# Altium schematic symbol library CustomParts.SchLib: 89 symbols
Pins are listed as number, name and electrical type; pins without a type are passive.

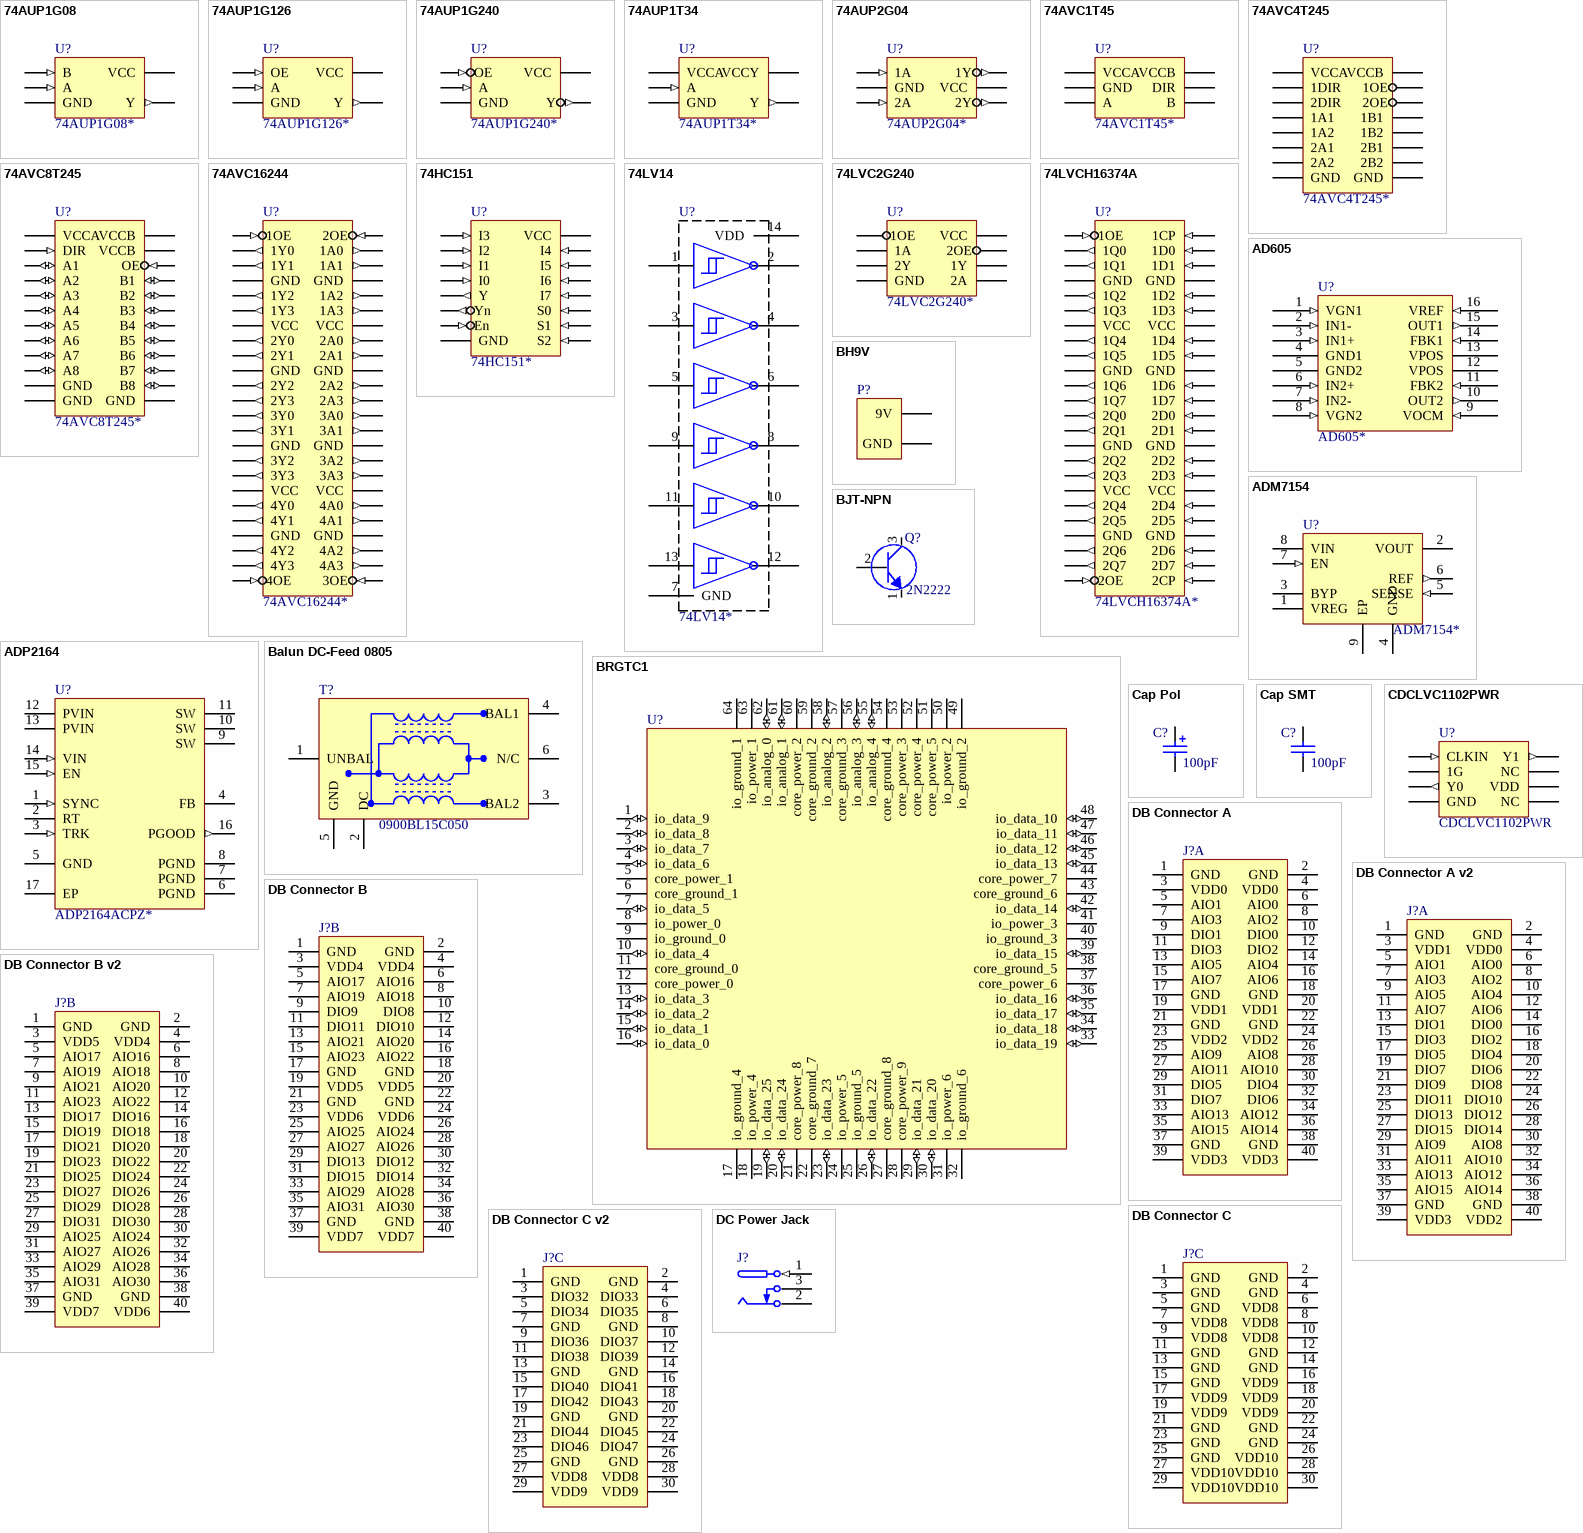
[diagram p0: symbols 74AUP1G08 to DC Power Jack]

## 74AUP1G08
designator U?, comment 74AUP1G08*
NXP Semiconductor Low-power 2-input AND gate
footprint 74AUP1G08GW (SOT23, 5-Leads, Body 2.05x2.13mm, Pitch 0.65mm, IPC Medium Density)
pins: 1 B (in), 2 A (in), 3 GND (power), 4 Y (out), 5 VCC (power)

## 74AUP1G126
designator U?, comment 74AUP1G126*
NXP Semiconductor 1-bit Buffer
footprint 74AUP1G126GW (Altium Generated SOT-23-5)
pins: 1 OE (in), 2 A (in), 3 GND (power), 4 Y (out), 5 VCC (power)

## 74AUP1G240
designator U?, comment 74AUP1G240*
NXP Semiconductor 1-bit Buffer
footprint 74AUP1G240GW (Altium Generated SOT-23-5)
pins: 1 OE (in), 2 A (in), 3 GND (power), 4 Y (out), 5 VCC (power)

## 74AUP1T34
designator U?, comment 74AUP1T34*
NXP Semiconductor low-power dual supply translating buffer
footprint 74AUP1T34GW (SOT23, 5-Leads, Body 2.05x2.13mm, Pitch 0.65mm, IPC Medium Density)
pins: 1 VCCA (power), 2 A (in), 3 GND (power), 4 Y (out), 5 VCCY (power)

## 74AUP2G04
designator U?, comment 74AUP2G04*
NXP Semiconductor low-power dual inverter
footprint 74AUP2G04GW (SOT23, 6-Leads, Body 2.00x2.10mm, Pitch 0.65mm, IPC Medium Density)
pins: 1 1A (in), 2 GND (power), 3 2A (in), 4 2Y (out), 5 VCC (power), 6 1Y (out)

## 74AVC1T45
designator U?, comment 74AVC1T45*
NXP Semiconductor 1-bit bidirectional level shifter
footprint 74AVC1T45GW (Altium Generated 6-lead SOT23 (2.00x2.10mm Body))
pins: 1 VCCA (power), 2 GND (power), 3 A (power), 4 B (power), 5 DIR (power), 6 VCCB

## 74AVC4T245
designator U?, comment 74AVC4T245*
NXP Semiconductor 4-bit bidirectional level shifter
footprint 74AVC4T245PW (ALtium Generated 16-TSSOP (4.40mm Width))
pins: 1 VCCA (power), 2 1DIR (power), 3 2DIR (power), 4 1A1 (power), 5 1A2 (power), 6 2A1 (power), 7 2A2 (power), 8 GND (power), 9 GND (power), 10 2B2 (power), 11 2B1 (power), 12 1B2 (power), 13 1B1 (power), 14 2OE (power), 15 1OE (power), 16 VCCB

## 74AVC8T245
designator U?, comment 74AVC8T245*
NXP Semiconductor 8-bit bidirectional level shifter
footprint 74AVC8T245PW (ALtium Generated 24-TSSOP (4.40mm Width))
pins: 1 VCCA (power), 2 DIR (in), 3 A1 (io), 4 A2 (io), 5 A3 (io), 6 A4 (io), 7 A5 (io), 8 A6 (io), 9 A7 (io), 10 A8 (io), 11 GND (power), 12 GND (power), 13 GND (power), 14 B8 (io), 15 B7 (io), 16 B6 (io), 17 B5 (io), 18 B4 (io), 19 B3 (io), 20 B2 (io), 21 B1 (io), 22 OE (in), 23 VCCB (power), 24 VCCB

## 74AVC16244
designator U?, comment 74AVC16244*
NXP Semiconductor 16-bit line driver
footprint 74AVC16244DGG (ALtium Generated 48-TSSOP (6.1mm Width))
pins: 1 1OE (in), 2 1Y0 (out), 3 1Y1 (out), 4 GND (power), 5 1Y2 (out), 6 1Y3 (out), 7 VCC (power), 8 2Y0 (out), 9 2Y1 (out), 10 GND (power), 11 2Y2 (out), 12 2Y3 (out), 13 3Y0 (out), 14 3Y1 (out), 15 GND (power), 16 3Y2 (out), 17 3Y3 (out), 18 VCC (power), 19 4Y0 (out), 20 4Y1 (out), 21 GND (power), 22 4Y2 (out), 23 4Y3 (out), 24 4OE (in), 25 3OE (in), 26 4A3 (out), 27 4A2 (out), 28 GND (power), 29 4A1 (out), 30 4A0 (out), 31 VCC (power), 32 3A3 (out), 33 3A2 (out), 34 GND (power), 35 3A1 (out), 36 3A0 (out), 37 2A3 (out), 38 2A2 (out), 39 GND (power), 40 2A1 (out), 41 2A0 (out), 42 VCC (power), 43 1A3 (out), 44 1A2 (out), 45 GND (power), 46 1A1 (out), 47 1A0 (out), 48 2OE (in)

## 74HC151
designator U?, comment 74HC151*
NXP Semiconductor 8-input multiplexer
footprint 74HC151PW (TSOP, 16-Leads, Body 5.00x4.40mm, Pitch 0.65mm, IPC Medium Density)
pins: 1 I3 (in), 2 I2 (in), 3 I1 (in), 4 I0 (in), 5 Y (out), 6 Yn (out), 7 En (in), 8 GND (power), 9 S2 (in), 10 S1 (in), 11 S0 (in), 12 I7 (in), 13 I6 (in), 14 I5 (in), 15 I4 (in), 16 VCC

## 74LV14
designator U?, comment 74LV14*
NXP Semiconductors Hex Schmitt Trigger
footprint 74LV14PW (ALtium Generated 14-TSSOP (4.40mm Width))
pins: 1 A1, 2 Y1n, 3 A2, 4 Y2n, 5 A3, 6 Y3n, 7 GND (power), 8 Y4n, 9 A4, 10 Y5n, 11 A5, 12 Y6n, 13 A6, 14 VDD (power)

## 74LVC2G240
designator U?, comment 74LVC2G240*
NXP Semiconductor 2-bit inverting buffer
footprint 74LVC2G240DP (ALtium Generated 8-TSSOP (3.00mm Width))
pins: 1 1OE (power), 2 1A (power), 3 2Y (power), 4 GND (power), 5 2A (power), 6 1Y (power), 7 2OE (power), 8 VCC

## 74LVCH16374A
designator U?, comment 74LVCH16374A*
NXP Semiconductor 16-bit edge-triggered D-type flip-flop; 5 V tolerant; 3-state
footprint 74LVCH16374ADGG (TSSOP, 48-Leads, Body 12.50x6.10mm, Pitch 0.50mm, IPC Medium Density)
pins: 1 1OE (in), 2 1Q0 (out), 3 1Q1 (out), 4 GND (power), 5 1Q2 (out), 6 1Q3 (out), 7 VCC (power), 8 1Q4 (out), 9 1Q5 (out), 10 GND (power), 11 1Q6 (out), 12 1Q7 (out), 13 2Q0 (out), 14 2Q1 (out), 15 GND (power), 16 2Q2 (out), 17 2Q3 (out), 18 VCC (power), 19 2Q4 (out), 20 2Q5 (out), 21 GND (power), 22 2Q6 (out), 23 2Q7 (out), 24 2OE (in), 25 2CP (in), 26 2D7 (in), 27 2D6 (in), 28 GND (power), 29 2D5 (in), 30 2D4 (in), 31 VCC (power), 32 2D3 (in), 33 2D2 (in), 34 GND (power), 35 2D1 (in), 36 2D0 (in), 37 1D7 (in), 38 1D6 (in), 39 GND (power), 40 1D5 (in), 41 1D4 (in), 42 VCC (power), 43 1D3 (in), 44 1D2 (in), 45 GND (power), 46 1D1 (in), 47 1D0 (in), 48 1CP (in)

## AD605
designator U?, comment AD605*
Dual, Low-Noise, Single Supply VGA
footprint AD605 (ALtium Generated 16-SOIC (3.90mm Width))
pins: 1 VGN1 (in), 2 IN1- (in), 3 IN1+ (in), 4 GND1 (power), 5 GND2 (power), 6 IN2+ (in), 7 IN2- (in), 8 VGN2 (in), 9 VOCM (in), 10 OUT2 (out), 11 FBK2 (in), 12 VPOS (power), 13 VPOS (power), 14 FBK1 (in), 15 OUT1 (out), 16 VREF (in)

## ADM7154
designator U?, comment ADM7154*
600 mA, Ultralow Noise, High PSRR, RF Linear Regulator
footprint ADM7154ARDZ (SOIC, 8-Leads, Body 4.90x3.90mm, Pitch 1.27mm, Thermal Pad 2.29x2.29mm, IPC Medium Density)
pins: 1 VREG (power), 2 VOUT (power), 3 BYP, 4 GND (power), 5 SENSE (in), 6 REF (out), 7 EN (in), 8 VIN (power), 9 EP (power)

## ADP2164
designator U?, comment ADP2164ACPZ*
6.5 V, 4 A, High Efficiency, Step-Down, DC-to-DC Regulator
footprint ADP2164ACPZ (QFN, 16-Leads, Body 4.00x4.00mm, Pitch 0.65mm, Thermal Pad 2.50x2.50mm, IPC Medium Density)
pins: 1 SYNC (in), 2 RT, 3 TRK (in), 4 FB, 5 GND, 6 PGND, 7 PGND, 8 PGND, 9 SW, 10 SW, 11 SW, 12 PVIN, 13 PVIN, 14 VIN (in), 15 EN (in), 16 PGOOD (out), 17 EP

## Balun DC-Feed 0805
designator T?, comment 0900BL15C050
1:1 RF Balun, EIA 0805 with DC-Feed Feature / Compatible with: 0900BL15C050
footprint Balun DC-Feed 0805 (Chip Array, Flat, 6-Leads, Pitch 0.65mm,  Body 2.00x1.25mm,  IPC Medium Density)
pins: 1 UNBAL, 2 DC (power), 3 BAL2, 4 BAL1, 5 GND (power), 6 N/C

## BH9V
designator P?
9 Volt Battery Holder
footprint BH9VPC (9 volt battery holder)
pins: 1 GND, 2 9V

## BJT-NPN
designator Q?, comment 2N2222
Schematic Terminals: 1-G, 2-S, 3-D
footprint TO-92 (TO-92 Standard Footprint (50 mil pitch))
pins: 1 C, 2 B, 3 C

## BRGTC1
designator U?  (value not drawn)
see http://www.csl.cornell.edu/~ctorng/
footprint BRGTC1 (Adapted from PGA socket 200-6311-9UN-1900)
pins: 1 io_data_9 (io), 2 io_data_8 (io), 3 io_data_7 (io), 4 io_data_6 (io), 5 core_power_1 (power), 6 core_ground_1 (power), 7 io_data_5 (io), 8 io_power_0 (power), 9 io_ground_0 (power), 10 io_data_4 (io), 11 core_ground_0 (power), 12 core_power_0 (power), 13 io_data_3 (io), 14 io_data_2 (io), 15 io_data_1 (io), 16 io_data_0 (io), 17 io_ground_4 (power), 18 io_power_4 (power), 19 io_data_25 (io), 20 io_data_24 (io), 21 core_power_8 (power), 22 core_ground_7 (power), 23 io_data_23 (io), 24 io_power_5 (power), 25 io_ground_5 (power), 26 io_data_22 (io), 27 core_ground_8 (power), 28 core_power_9 (power), 29 io_data_21 (io), 30 io_data_20 (io), 31 io_power_6 (power), 32 io_ground_6 (power), 33 io_data_19 (io), 34 io_data_18 (io), 35 io_data_17 (io), 36 io_data_16 (io), 37 core_power_6 (power), 38 core_ground_5 (power), 39 io_data_15 (io), 40 io_ground_3 (power), 41 io_power_3 (power), 42 io_data_14 (io), 43 core_ground_6 (power), 44 core_power_7 (power), 45 io_data_13 (io), 46 io_data_12 (io), 47 io_data_11 (io), 48 io_data_10 (io), 49 io_ground_2 (power), 50 io_power_2 (power), 51 core_power_5 (power), 52 core_power_4 (power), 53 core_power_3 (power), 54 core_ground_4 (power), 55 io_analog_4 (io), 56 io_analog_3 (io), 57 core_ground_3 (power), 58 io_analog_2 (io), 59 core_ground_2 (power), 60 core_power_2 (power), 61 io_analog_1 (io), 62 io_analog_0 (io), 63 io_power_1 (power), 64 io_ground_1 (power)

## Cap Pol
designator C?  value 100pF  (hidden comment: Cap Pol)
Generic Polarized Capacitor, Through Hole or Surface Mount
footprint RAD4mm_P (Radial Capacitor (polarized) 4 mm)
simulation model CAP (Capacitor)
signal-integrity model Cap Pol
footprint RAD8mm_P (Radial Capacitor (polarized) 8 mm)
footprint RAD10mm_P (Radial Capacitor (polarized) 10 mm)
footprint 3216N Pol (1206 (3216 Metric))
footprint 6032N Pol (2312 (6032 Metric))
pins: 1, 2
1 alternate drawing of the same symbol

## Cap SMT
designator C?  value 100pF  (hidden comment: Cap SMT)
Generic Non-Polarized Capacitor, Surface Mount; Dielectric: X5R
simulation model CAP (Capacitor)
signal-integrity model Cap
footprint 1608N (0603 (1608 Metric) from PCBfootprints_290709)
footprint 0603L (0201 (0603 Metric). Chip Capacitor, 2-Leads, Body 0.60x0.30mm, IPC High Density)
footprint 0603N (0201 (0603 Metric). Chip Capacitor, 2-Leads, Body 0.60x0.30mm, IPC Medium Density)
footprint 1005L (0402 (1005 Metric) from PCBfootprints_290709)
footprint 1005N (0402 (1005 Metric) from PCBfootprints_290709)
footprint 2012N (0805 (2012 Metric) from PCBfootprints_290709)
footprint 3216N (1206 (3216 Metric) from PCBfootprints_290709)
pins: 1, 2
1 alternate drawing of the same symbol

## CDCLVC1102PWR
designator U?
TI 1:2 Single-Ended Clock Buffer
footprint CDCLVC1102PWR (ALtium Generated 8-TSSOP (4.40mm Width))
pins: 1 CLKIN (in), 2 1G (power), 3 Y0 (out), 4 GND (power), 5 NC (power), 6 VDD (power), 7 NC (power), 8 Y1 (out)

## DB Connector A
designator J?A
Daughterboard Connector A
footprint DB Connector A (Daughterboard Connector A)
pins: 1 GND (power), 2 GND, 3 VDD0 (power), 4 VDD0 (power), 5 AIO1 (power), 6 AIO0 (power), 7 AIO3 (power), 8 AIO2 (power), 9 DIO1 (power), 10 DIO0 (power), 11 DIO3 (power), 12 DIO2 (power), 13 AIO5 (power), 14 AIO4 (power), 15 AIO7 (power), 16 AIO6 (power), 17 GND (power), 18 GND (power), 19 VDD1 (power), 20 VDD1 (power), 21 GND (power), 22 GND (power), 23 VDD2 (power), 24 VDD2 (power), 25 AIO9 (power), 26 AIO8 (power), 27 AIO11 (power), 28 AIO10 (power), 29 DIO5 (power), 30 DIO4 (power), 31 DIO7 (power), 32 DIO6 (power), 33 AIO13 (power), 34 AIO12 (power), 35 AIO15 (power), 36 AIO14 (power), 37 GND (power), 38 GND (power), 39 VDD3 (power), 40 VDD3 (power)

## DB Connector A v2
designator J?A
Daughterboard Connector A v2
footprint DB Connector AB v2 (Daughterboard Connector AB v2)
pins: 1 GND (power), 2 GND, 3 VDD1 (power), 4 VDD0 (power), 5 AIO1 (power), 6 AIO0 (power), 7 AIO3 (power), 8 AIO2 (power), 9 AIO5 (power), 10 AIO4 (power), 11 AIO7 (power), 12 AIO6 (power), 13 DIO1 (power), 14 DIO0 (power), 15 DIO3 (power), 16 DIO2 (power), 17 DIO5 (power), 18 DIO4 (power), 19 DIO7 (power), 20 DIO6 (power), 21 DIO9 (power), 22 DIO8 (power), 23 DIO11 (power), 24 DIO10 (power), 25 DIO13 (power), 26 DIO12 (power), 27 DIO15 (power), 28 DIO14 (power), 29 AIO9 (power), 30 AIO8 (power), 31 AIO11 (power), 32 AIO10 (power), 33 AIO13 (power), 34 AIO12 (power), 35 AIO15 (power), 36 AIO14 (power), 37 GND (power), 38 GND (power), 39 VDD3 (power), 40 VDD2 (power)

## DB Connector B
designator J?B
Daughterboard Connector B
footprint DB Connector B (DE2-70 Expansion Header (1/2); 800 mill between pin 1s)
pins: 1 GND (power), 2 GND, 3 VDD4 (power), 4 VDD4 (power), 5 AIO17 (power), 6 AIO16 (power), 7 AIO19 (power), 8 AIO18 (power), 9 DIO9 (power), 10 DIO8 (power), 11 DIO11 (power), 12 DIO10 (power), 13 AIO21 (power), 14 AIO20 (power), 15 AIO23 (power), 16 AIO22 (power), 17 GND (power), 18 GND (power), 19 VDD5 (power), 20 VDD5 (power), 21 GND (power), 22 GND (power), 23 VDD6 (power), 24 VDD6 (power), 25 AIO25 (power), 26 AIO24 (power), 27 AIO27 (power), 28 AIO26 (power), 29 DIO13 (power), 30 DIO12 (power), 31 DIO15 (power), 32 DIO14 (power), 33 AIO29 (power), 34 AIO28 (power), 35 AIO31 (power), 36 AIO30 (power), 37 GND (power), 38 GND (power), 39 VDD7 (power), 40 VDD7 (power)

## DB Connector B v2
designator J?B
Daughterboard Connector B v2
footprint DB Connector AB v2 (Daughterboard Connector AB v2)
pins: 1 GND (power), 2 GND, 3 VDD5 (power), 4 VDD4 (power), 5 AIO17 (power), 6 AIO16 (power), 7 AIO19 (power), 8 AIO18 (power), 9 AIO21 (power), 10 AIO20 (power), 11 AIO23 (power), 12 AIO22 (power), 13 DIO17 (power), 14 DIO16 (power), 15 DIO19 (power), 16 DIO18 (power), 17 DIO21 (power), 18 DIO20 (power), 19 DIO23 (power), 20 DIO22 (power), 21 DIO25 (power), 22 DIO24 (power), 23 DIO27 (power), 24 DIO26 (power), 25 DIO29 (power), 26 DIO28 (power), 27 DIO31 (power), 28 DIO30 (power), 29 AIO25 (power), 30 AIO24 (power), 31 AIO27 (power), 32 AIO26 (power), 33 AIO29 (power), 34 AIO28 (power), 35 AIO31 (power), 36 AIO30 (power), 37 GND (power), 38 GND (power), 39 VDD7 (power), 40 VDD6 (power)

## DB Connector C
designator J?C
Daughterboard Connector C
footprint DB Connector C (DE2-70 Expansion Header (1/2); 800 mill between pin 1s)
pins: 1 GND (power), 2 GND, 3 GND (power), 4 GND (power), 5 GND (power), 6 VDD8 (power), 7 VDD8 (power), 8 VDD8 (power), 9 VDD8 (power), 10 VDD8 (power), 11 GND (power), 12 GND (power), 13 GND (power), 14 GND (power), 15 GND (power), 16 VDD9 (power), 17 VDD9 (power), 18 VDD9 (power), 19 VDD9 (power), 20 VDD9 (power), 21 GND (power), 22 GND (power), 23 GND (power), 24 GND (power), 25 GND (power), 26 VDD10 (power), 27 VDD10 (power), 28 VDD10 (power), 29 VDD10 (power), 30 VDD10 (power)

## DB Connector C v2
designator J?C
Daughterboard Connector C v2
footprint DB Connector C v2 (Daughterboard Connector C v2)
pins: 1 GND (power), 2 GND, 3 DIO32 (power), 4 DIO33 (power), 5 DIO34 (power), 6 DIO35 (power), 7 GND (power), 8 GND (power), 9 DIO36 (power), 10 DIO37 (power), 11 DIO38 (power), 12 DIO39 (power), 13 GND (power), 14 GND (power), 15 DIO40 (power), 16 DIO41 (power), 17 DIO42 (power), 18 DIO43 (power), 19 GND (power), 20 GND (power), 21 DIO44 (power), 22 DIO45 (power), 23 DIO46 (power), 24 DIO47 (power), 25 GND (power), 26 GND (power), 27 VDD8 (power), 28 VDD8 (power), 29 VDD9 (power), 30 VDD9 (power)

## DC Power Jack
designator J?
DC Power Jack
footprint BARREL-2.1x5.5 (Barrel Power Connector Male (2.1mm ID, 5.5mm OD))
footprint BARREL-2.1x5.5_slot (Barrel Power Connector Male 2.1mm ID, 5.5mm OD, ex: EJ508A)
pins: 1 (in), 2 (power), 3 (power)

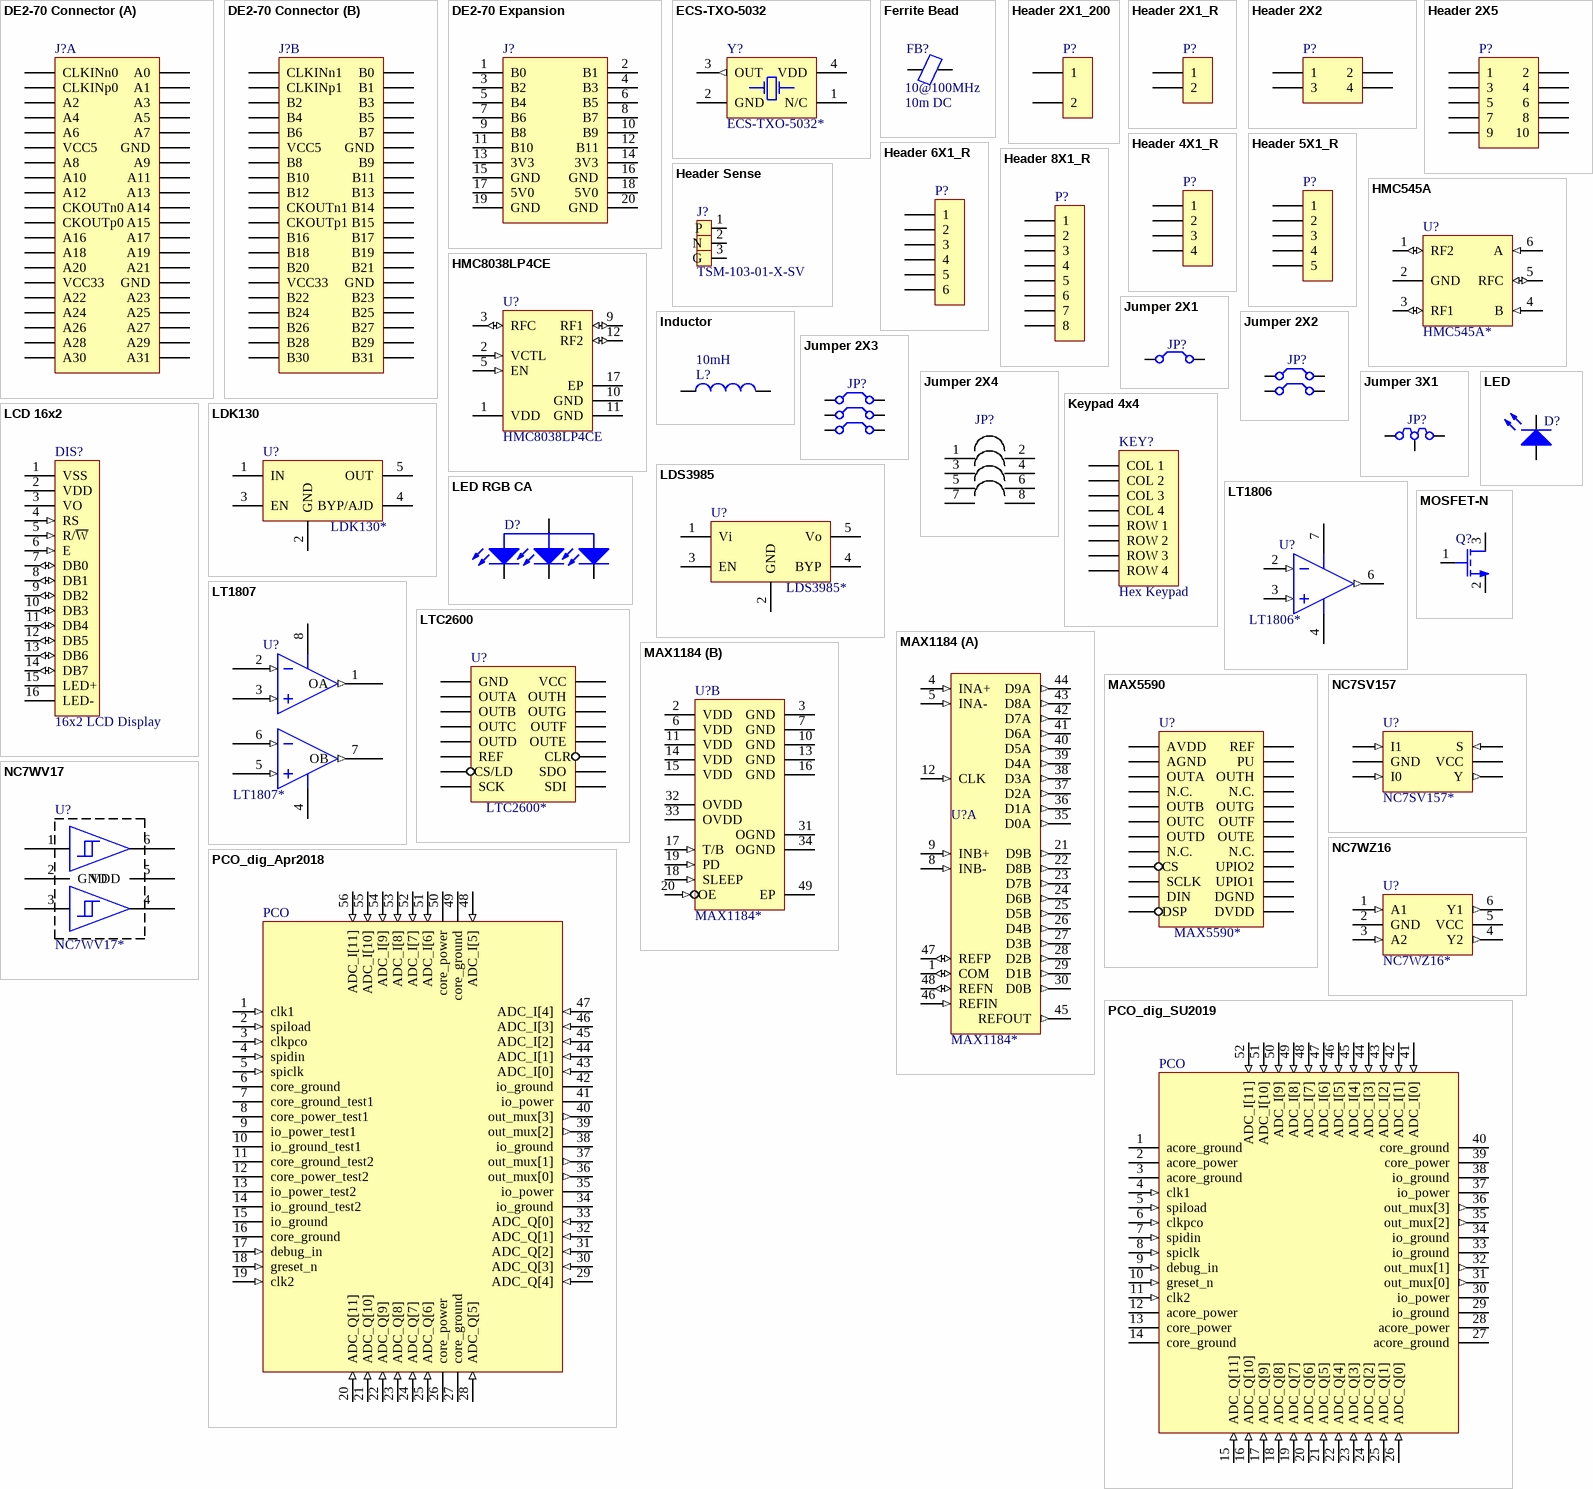
[diagram p1: symbols DE2-70 Connector to PCO_dig_SU2019]

## DE2-70 Connector
designator J?
DE2-70 Connector (GPIO0/1)
footprint DE2-70 Connector
part A pins: 1 CLKINn0 (power), 2 A0, 3 CLKINp0 (power), 4 A1 (power), 5 A2 (power), 6 A3 (power), 7 A4 (power), 8 A5 (power), 9 A6 (power), 10 A7 (power), 11 VCC5 (power), 12 GND (power), 13 A8 (power), 14 A9 (power), 15 A10 (power), 16 A11 (power), 17 A12 (power), 18 A13 (power), 19 CKOUTn0 (power), 20 A14 (power), 21 CKOUTp0 (power), 22 A15 (power), 23 A16 (power), 24 A17 (power), 25 A18 (power), 26 A19 (power), 27 A20 (power), 28 A21 (power), 29 VCC33 (power), 30 GND (power), 31 A22 (power), 32 A23 (power), 33 A24 (power), 34 A25 (power), 35 A26 (power), 36 A27 (power), 37 A28 (power), 38 A29 (power), 39 A30 (power), 40 A31 (power)
part B pins: 41 CLKINn1 (power), 42 B0, 43 CLKINp1 (power), 44 B1 (power), 45 B2 (power), 46 B3 (power), 47 B4 (power), 48 B5 (power), 49 B6 (power), 50 B7 (power), 51 VCC5 (power), 52 GND (power), 53 B8 (power), 54 B9 (power), 55 B10 (power), 56 B11 (power), 57 B12 (power), 58 B13 (power), 59 CKOUTn1 (power), 60 B14 (power), 61 CKOUTp1 (power), 62 B15 (power), 63 B16 (power), 64 B17 (power), 65 B18 (power), 66 B19 (power), 67 B20 (power), 68 B21 (power), 69 VCC33 (power), 70 GND (power), 71 B22 (power), 72 B23 (power), 73 B24 (power), 74 B25 (power), 75 B26 (power), 76 B27 (power), 77 B28 (power), 78 B29 (power), 79 B30 (power), 80 B31 (power)

## DE2-70 Expansion
designator J?
Unused FPGA Pin Expansion Header
footprint DE2-70 Expansion (DE2-70 Expansion Header)
pins: 1 B0 (power), 2 B1, 3 B2 (power), 4 B3 (power), 5 B4 (power), 6 B5 (power), 7 B6 (power), 8 B7 (power), 9 B8 (power), 10 B9 (power), 11 B10 (power), 12 B11 (power), 13 3V3 (power), 14 3V3 (power), 15 GND (power), 16 GND (power), 17 5V0 (power), 18 5V0 (power), 19 GND (power), 20 GND (power)

## ECS-TXO-5032
designator Y?, comment ECS-TXO-5032*
3.3 V HCMOS TCXO Oscillator 2.5ppm
footprint ECS-TXO-5032
pins: 1 N/C (power), 2 GND (power), 3 OUT (out), 4 VDD (power)

## Ferrite Bead
designator FB?  value 10@100MHz  RDC: 10m DC  (hidden comment: Ferrite Bead)
Ferrite Bead, Surface Mount
footprint 1608N (0603 (1608 Metric))
footprint 2012N (0805 (2012 Metric))
footprint 3216N (1206 (3216 Metric))
pins: 1, 2
1 alternate drawing of the same symbol

## Header 2X1_200
designator P?  (value not drawn)
Header, 2-Pin, 200 mil Pitch
footprint HDR1X2_200 (Header, 2-Pin, 200 mil Pitch)
pins: 1, 2

## Header 2X1_R
designator P?  (value not drawn)
Power Header, 2-Pin, Right Angle
footprint HDR1X2_R (Power Header; 2 Position; Right Angle)
pins: 1, 2

## Header 2X2
designator P?  (value not drawn)
Header, 2x2-Pin
footprint HDR2X2 (Header, 2x2-Pin, 100 mil Pitch)
pins: 1, 2, 3, 4

## Header 2X5
designator P?  (value not drawn)
Header, 2x5-Pin
footprint HDR2X5 (Header, 2x5-Pin, 100 mil Pitch)
pins: 1, 2, 3, 4, 5, 6, 7, 8, 9, 10

## Header 4X1_R
designator P?  (value not drawn)
Power Header, 4-Pin, Right Angle
footprint HDR1X4_R (Power Header; 4 Position; Right Angle)
pins: 1, 2, 3, 4

## Header 5X1_R
designator P?  (value not drawn)
Power Header, 5-Pin, Right Angle
footprint HDR1X5_R (Power Header; 5 Position; Right Angle)
pins: 1, 2, 3, 4, 5

## Header 6X1_R
designator P?  (value not drawn)
Power Header, 6-Pin, Right Angle
footprint HDR1X6_R (Power Header; 6 Position; Right Angle)
pins: 1, 2, 3, 4, 5, 6

## Header 8X1_R
designator P?  (value not drawn)
Power Header, 8-Pin, Right Angle
footprint HDR1X8_R (Power Header; 8 Position; Right Angle)
pins: 1, 2, 3, 4, 5, 6, 7, 8

## Header Sense
designator J?, comment TSM-103-01-X-SV
Current sense header for scope attachment
footprint HDR-Sense (Current Sense Connection Header, Through-Hole)
footprint HDR-Sense-SMT (Current Sense Connection Header, Surface Mount)
pins: 1 P (power), 2 N (power), 3 G (power)

## HMC545A
designator U?, comment HMC545A*
GaAs MMIC SPDT SWITCH, DC - 3 GHz
footprint HMC545A (SOT23, 6-Leads, Body 2.90x2.80mm, Pitch 0.95mm, IPC Medium Density)
pins: 1 RF2 (io), 2 GND (power), 3 RF1 (io), 4 B (in), 5 RFC (io), 6 A (in)

## HMC8038LP4CE
designator U?
High Isolation, Silicon SPDT, / Nonreflective Switch, 0.1 GHz to 6.0 GHz
footprint HMC8038LP4CE (QFN, 16-Leads, Body 4.00x4.00mm, Pitch 0.65mm, Thermal Pad 2.40x2.40mm, IPC Medium Density)
pins: 1 VDD (power), 2 VCTL (in), 3 RFC (io), 5 EN (in), 9 RF1 (io), 10 GND (power), 11 GND (power), 12 RF2 (io), 17 EP (power)

## Inductor
designator L?  value 10mH
Inductor Surface Mount
simulation model INDUCTOR (Inductor)
signal-integrity model Inductor
footprint 1608N (0603 (1608 Metric) from PCBfootprints_290709)
footprint 1005N (0402 (1005 Metric) from PCBfootprints_290709)
footprint 2012N (0805 (2012 Metric) from PCBfootprints_290709)
footprint 3216N (1206 (3216 Metric) from PCBfootprints_290709)
footprint XFL4020 (XFL4020 Series Coilcraft Inductor)
footprint LQH32P (Precision Wire Wound Inductor, 2-Leads, Body 3.20x2.50mm, IPC Medium Density)
pins: 1, 2

## Jumper 2X1
designator JP?  (value not drawn)
Jumper, 2-Position
footprint JMPR2X1 (Jumper, 2-Position)
pins: 1, 2

## Jumper 2X2
designator JP?  (value not drawn)
Jumper, Two of 2-Position
footprint JMPR2X2 (Jumper, Two of 2-Position)
pins: 1, 2, 3, 4

## Jumper 2X3
designator JP?  (value not drawn)
Jumper, Three of 3-Position
footprint JMPR2X3 (Jumper, Two of 3-Position)
footprint JMPR2X3-50mil (Jumper, Three of 2-Position, 50 mil pitch)
footprint FTS-103-01-XX-DV
pins: 1, 2, 3, 4, 5, 6

## Jumper 2X4
designator JP?  (value not drawn)
Jumper, Four of 2-Position
footprint JMPR2X4 (Jumper, Four of 2-Position)
pins: 1, 2, 3, 4, 5, 6, 7, 8

## Jumper 3X1
designator JP?  (value not drawn)
Jumper, 3-Position
footprint JMPR3X1 (Jumper, 3-Position)
footprint JMPR3X1-50mil (Jumper, 3-Position)
footprint FTS-103-01-XX-SV (0.050 inch, 1x3 Pins, single vertical, low-profile terminal strip)
footprint SMTC-TSM-103-01-XXX-SV (Single Row SMT Assembly, 3 Pins, Vertical, 2.54mm Pitch, Male)
pins: 1, 2, 3

## Keypad 4x4
designator KEY?, comment Hex Keypad
footprint Keypad 4x4 (AK-1604-N-BWB 16-key Keypad)
pins: 1 COL 1 (power), 2 COL 2 (power), 3 COL 3 (power), 4 COL 4 (power), 5 ROW 1 (power), 6 ROW 2 (power), 7 ROW 3 (power), 8 ROW 4 (power)

## LCD 16x2
designator DIS?, comment 16x2 LCD Display
HD44780 based display
footprint LCD 16x2 (Sparkfun ADM1602K-FSY-FBS-3.3V LCD Display)
pins: 1 VSS (power), 2 VDD (power), 3 VO (power), 4 RS (in), 5 R/~{W} (in), 6 E (in), 7 DB0 (io), 8 DB1 (io), 9 DB2 (io), 10 DB3 (io), 11 DB4 (io), 12 DB5 (io), 13 DB6 (io), 14 DB7 (io), 15 LED+ (power), 16 LED- (power)

## LDK130
designator U?, comment LDK130*
STMicroelectronics 300mA LDOs
footprint LDK130M (Altium Generated SOT-23-5L)
pins: 1 IN (power), 2 GND (power), 3 EN (power), 4 BYP/AJD (power), 5 OUT (power)

## LDS3985
designator U?, comment LDS3985*
STMicroelectronics 300mA Low Noise LDOs
footprint LDS3985M (Altium Generated SOT-23-5)
pins: 1 Vi (power), 2 GND (power), 3 EN (power), 4 BYP (power), 5 Vo (power)

## LED
designator D?  (value not drawn)
Generic LED, Surface Mount
footprint 2012N LED (0805 (2012 Metric))
pins: 1, 2
1 alternate drawing of the same symbol

## LED RGB CA
designator D?  (value not drawn)
LED, Surface Mount
footprint 1608N (0603 (1608 Metric))
footprint LED-RGB-THRU
footprint 3216N (1206 (3216 Metric))
pins: 1, 2, 3, 4
1 alternate drawing of the same symbol

## LT1806
designator U?, comment LT1806*
Single Low Noise Precision Op Amp
footprint LT18067-SOIC (ALtium Generated 8-SOIC (3.90mm Width))
pins: 2 IN- (in), 3 IN+ (in), 4 V- (power), 6 OUT (out), 7 V+ (power)

## LT1807
designator U?, comment LT1807*
Dual Low Noise Precision Op Amp
footprint LT18067-SOIC (ALtium Generated 8-SOIC (3.90mm Width))
footprint LT18067-MSOP (ALtium Generated 8-MSOP (3.0mm Width))
pins: 1 OA (out), 2 IAn (in), 3 IAp (in), 4 V- (power), 5 IBp (in), 6 IBn (in), 7 OB (out), 8 V+ (power)

## LTC2600
designator U?, comment LTC2600*
16-bit, 8-output DAC. Compatible with LTC2600(14), LTC2620(12)
footprint LTC2600 (ALtium Generated 16-SSOP (3.90mm Width))
pins: 1 GND (power), 2 OUTA (power), 3 OUTB (power), 4 OUTC (power), 5 OUTD (power), 6 REF (power), 7 CS/LD (power), 8 SCK (power), 9 SDI (power), 10 SDO (power), 11 CLR (power), 12 OUTE (power), 13 OUTF (power), 14 OUTG (power), 15 OUTH (power), 16 VCC (power)

## MAX1184
designator U?, comment MAX1184*
10-bit, 2-output, 20MSPS ADC
footprint MAX1184ECM (Altium Generated 48-TSQFP 7.00x7.00mm Body) with Thermal Pad)
part A pins: 1 COM (io), 4 INA+ (in), 5 INA- (in), 8 INB- (in), 9 INB+ (in), 12 CLK (in), 21 D9B (out), 22 D8B (out), 23 D7B (out), 24 D6B (out), 25 D5B (out), 26 D4B (out), 27 D3B (out), 28 D2B (out), 29 D1B (out), 30 D0B (out), 35 D0A (out), 36 D1A (out), 37 D2A (out), 38 D3A (out), 39 D4A (out), 40 D5A (out), 41 D6A (out), 42 D7A (out), 43 D8A (out), 44 D9A (out), 45 REFOUT (out), 46 REFIN (in), 47 REFP (io), 48 REFN (io)
part B pins: 2 VDD (power), 3 GND (power), 6 VDD (power), 7 GND (power), 10 GND (power), 11 VDD (power), 13 GND (power), 14 VDD (power), 15 VDD (power), 16 GND (power), 17 T/B (in), 18 SLEEP (in), 19 PD (in), 20 OE (in), 31 OGND (power), 32 OVDD (power), 33 OVDD (power), 34 OGND (power), 49 EP (power)

## MAX5590
designator U?, comment MAX5590*
12-bit, 8-output DAC. Compatible with MAX5592(10), MAX5594(8)
footprint MAX5590 (ALtium Generated 24-TSSOP (4.40mm Width))
pins: 1 AVDD (power), 2 AGND (power), 3 OUTA (power), 4 N.C. (power), 5 OUTB (power), 6 OUTC (power), 7 OUTD (power), 8 N.C. (power), 9 CS (power), 10 SCLK (power), 11 DIN (power), 12 DSP (power), 13 DVDD (power), 14 DGND (power), 15 UPIO1 (power), 16 UPIO2 (power), 17 N.C. (power), 18 OUTE (power), 19 OUTF (power), 20 OUTG (power), 21 N.C. (power), 22 OUTH (power), 23 PU (power), 24 REF

## MOSFET-N
designator Q?, comment NMOS  (value not drawn)
Schematic Terminals: 1-G, 2-S, 3-D
footprint RU1J002YN (MOSFET N-Channel, Logic Level 0.9 V Drive)
pins: 1 G, 2 S, 3 D

## NC7SV157
designator U?, comment NC7SV157*
Fairchild Semiconductor 2:1 Mux
footprint NC7SV157P6X (Altium Generated 6-lead SOT23 (2.00x2.10mm Body))
pins: 1 I1 (in), 2 GND (power), 3 I0 (in), 4 Y (out), 5 VCC (power), 6 S (in)

## NC7WV17
designator U?, comment NC7WV17*
Fairchild Semiconductor Dual Schmitt Trigger
footprint NC7WV17P6X (Fairchild Semiconductor Dual Schmitt Trigger)
pins: 1 A1, 2 GND (power), 3 A2, 4 Y2, 5 VDD (power), 6 Y1

## NC7WZ16
designator U?, comment NC7WZ16*
Fairchild Semiconductor High-Speed Dual Buffer
footprint NC7WZ16P6X (Footprint not found)
pins: 1 A1 (in), 2 GND (power), 3 A2 (in), 4 Y2 (out), 5 VCC (power), 6 Y1 (out)

## PCO_dig_Apr2018
designator PCO  (value not drawn)
ASIC-generated PCO in 180 nm TSMC
footprint PCO_DIG_APR2018
pins: 1 clk1 (in), 2 spiload (in), 3 clkpco (in), 4 spidin (in), 5 spiclk (in), 6 core_ground (power), 7 core_ground_test1 (power), 8 core_power_test1 (power), 9 io_power_test1 (power), 10 io_ground_test1 (power), 11 core_ground_test2 (power), 12 core_power_test2 (power), 13 io_power_test2 (power), 14 io_ground_test2 (power), 15 io_ground (power), 16 core_ground (power), 17 debug_in (in), 18 greset_n (in), 19 clk2 (in), 20 ADC_Q[11] (in), 21 ADC_Q[10] (in), 22 ADC_Q[9] (in), 23 ADC_Q[8] (in), 24 ADC_Q[7] (in), 25 ADC_Q[6] (in), 26 core_power (power), 27 core_ground (power), 28 ADC_Q[5] (in), 29 ADC_Q[4] (in), 30 ADC_Q[3] (in), 31 ADC_Q[2] (in), 32 ADC_Q[1] (in), 33 ADC_Q[0] (in), 34 io_ground (power), 35 io_power (power), 36 out_mux[0] (out), 37 out_mux[1] (out), 38 io_ground (power), 39 out_mux[2] (out), 40 out_mux[3] (out), 41 io_power (power), 42 io_ground (power), 43 ADC_I[0] (in), 44 ADC_I[1] (in), 45 ADC_I[2] (in), 46 ADC_I[3] (in), 47 ADC_I[4] (in), 48 ADC_I[5] (in), 49 core_ground (power), 50 core_power (power), 51 ADC_I[6] (in), 52 ADC_I[7] (in), 53 ADC_I[8] (in), 54 ADC_I[9] (in), 55 ADC_I[10] (in), 56 ADC_I[11] (in)

## PCO_dig_SU2019
designator PCO  (value not drawn)
ASIC-generated PCO in 180 nm TSMC
footprint PCO_DIG_SU2019
pins: 1 acore_ground (power), 2 acore_power (power), 3 acore_ground (power), 4 clk1 (in), 5 spiload (in), 6 clkpco (in), 7 spidin (in), 8 spiclk (in), 9 debug_in (in), 10 greset_n (in), 11 clk2 (in), 12 acore_power (power), 13 core_power (power), 14 core_ground (power), 15 ADC_Q[11] (in), 16 ADC_Q[10] (in), 17 ADC_Q[9] (in), 18 ADC_Q[8] (in), 19 ADC_Q[7] (in), 20 ADC_Q[6] (in), 21 ADC_Q[5] (in), 22 ADC_Q[4] (in), 23 ADC_Q[3] (in), 24 ADC_Q[2] (in), 25 ADC_Q[1] (in), 26 ADC_Q[0] (in), 27 acore_ground (power), 28 acore_power (power), 29 io_ground (power), 30 io_power (power), 31 out_mux[0] (out), 32 out_mux[1] (out), 33 io_ground (power), 34 io_ground (power), 35 out_mux[2] (out), 36 out_mux[3] (out), 37 io_power (power), 38 io_ground (power), 39 core_power (power), 40 core_ground (power), 41 ADC_I[0] (in), 42 ADC_I[1] (in), 43 ADC_I[2] (in), 44 ADC_I[3] (in), 45 ADC_I[4] (in), 46 ADC_I[5] (in), 47 ADC_I[6] (in), 48 ADC_I[7] (in), 49 ADC_I[8] (in), 50 ADC_I[9] (in), 51 ADC_I[10] (in), 52 ADC_I[11] (in)

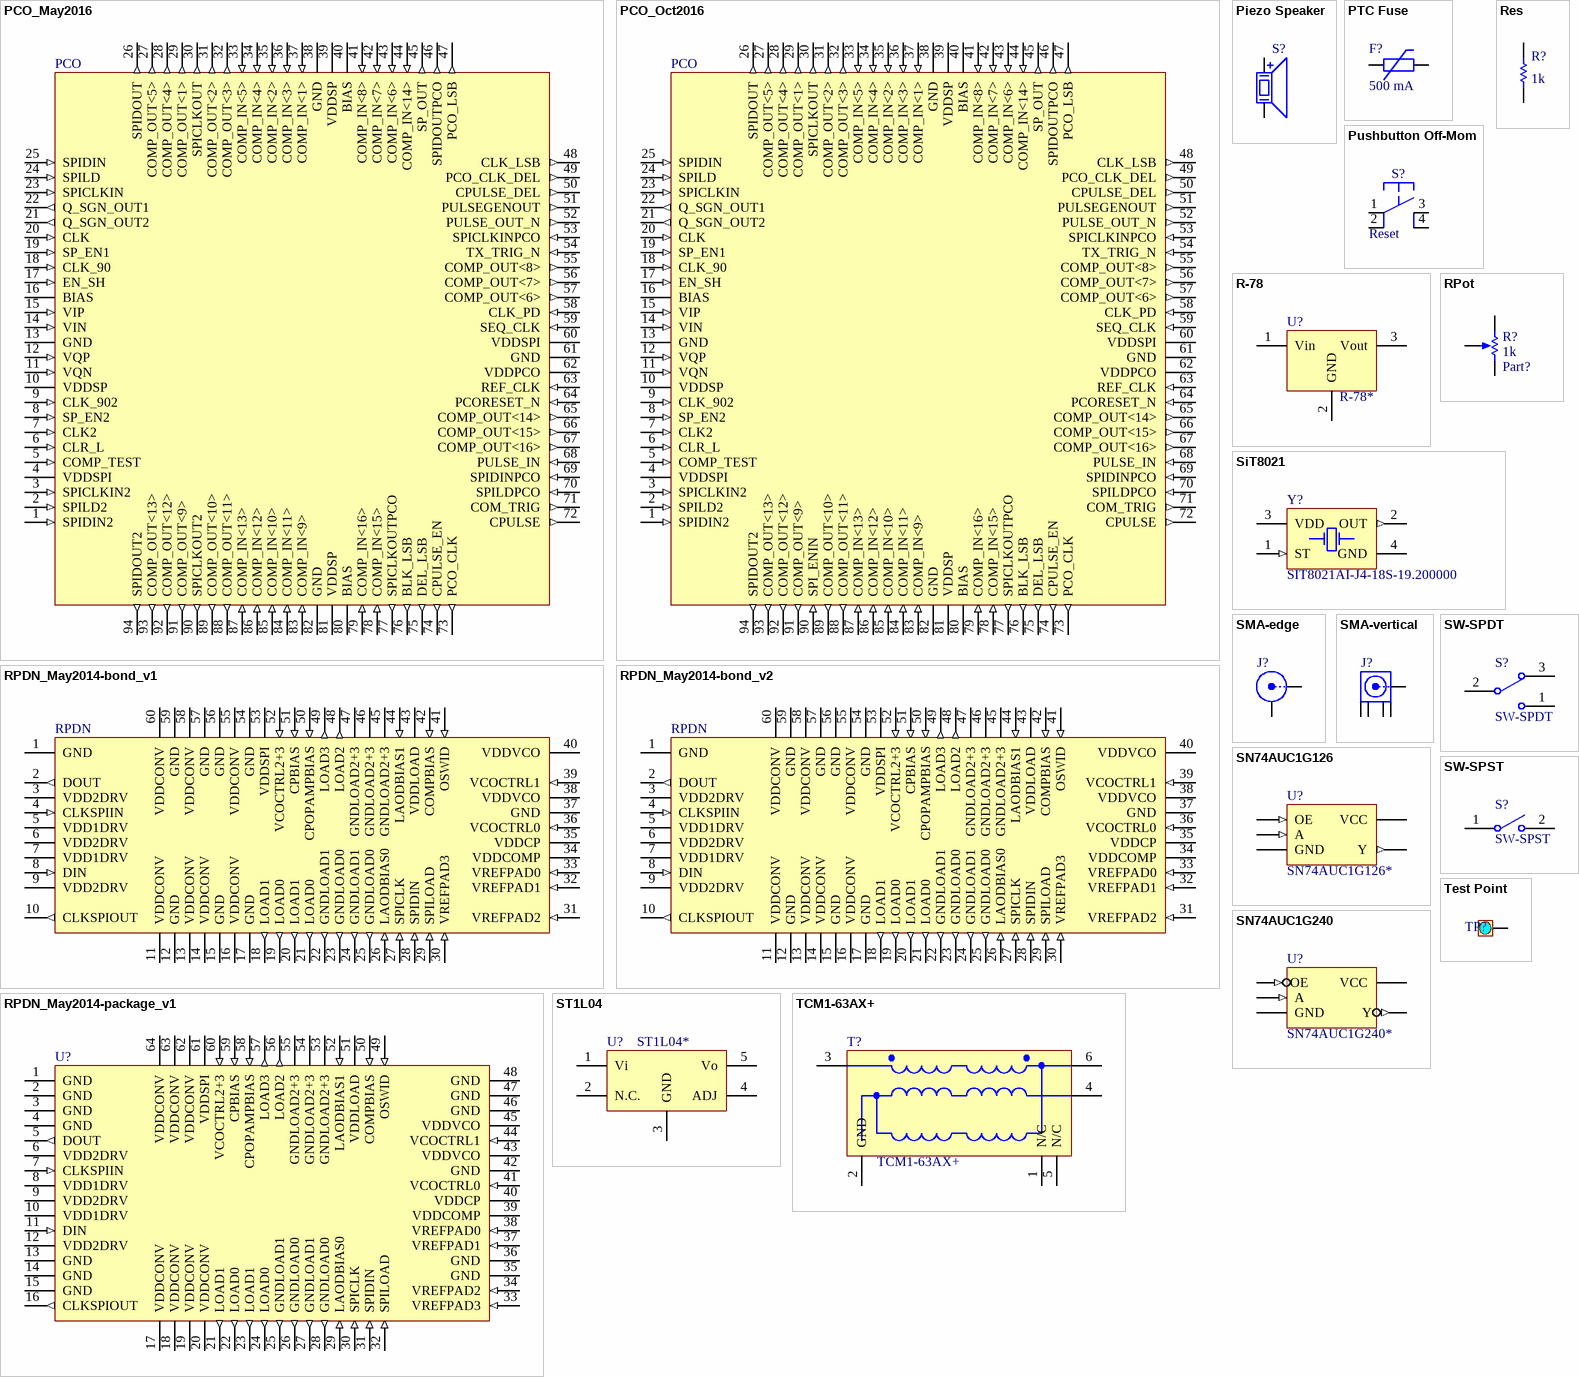
[diagram p2: symbols PCO_May2016 to Test Point]

## PCO_May2016
designator PCO  (value not drawn)
footprint PCO_May2016-Bond_v1
pins: 1 SPIDIN2 (in), 2 SPILD2 (in), 3 SPICLKIN2 (in), 4 VDDSPI (power), 5 COMP_TEST (in), 6 CLR_L (in), 7 CLK2 (in), 8 SP_EN2 (in), 9 CLK_902 (in), 10 VDDSP (power), 11 VQN (in), 12 VQP (in), 13 GND (power), 14 VIN (in), 15 VIP (in), 16 BIAS (power), 17 EN_SH (in), 18 CLK_90 (in), 19 SP_EN1 (in), 20 CLK (in), 21 Q_SGN_OUT2 (out), 22 Q_SGN_OUT1 (out), 23 SPICLKIN (in), 24 SPILD (in), 25 SPIDIN (in), 26 SPIDOUT (out), 27 COMP_OUT<5> (out), 28 COMP_OUT<4> (out), 29 COMP_OUT<1> (out), 30 SPICLKOUT (out), 31 COMP_OUT<2> (out), 32 COMP_OUT<3> (out), 33 COMP_IN<5> (in), 34 COMP_IN<4> (in), 35 COMP_IN<2> (in), 36 COMP_IN<3> (in), 37 COMP_IN<1> (in), 38 GND (power), 39 VDDSP (power), 40 BIAS (power), 41 COMP_IN<8> (in), 42 COMP_IN<7> (in), 43 COMP_IN<6> (in), 44 COMP_IN<14> (in), 45 SP_OUT (out), 46 SPIDOUTPCO (out), 47 PCO_LSB (out), 48 CLK_LSB (out), 49 PCO_CLK_DEL (out), 50 CPULSE_DEL (out), 51 PULSEGENOUT (out), 52 PULSE_OUT_N (out), 53 SPICLKINPCO (in), 54 TX_TRIG_N (in), 55 COMP_OUT<8> (out), 56 COMP_OUT<7> (out), 57 COMP_OUT<6> (out), 58 CLK_PD (in), 59 SEQ_CLK (in), 60 VDDSPI (power), 61 GND (power), 62 VDDPCO (power), 63 REF_CLK (in), 64 PCORESET_N (in), 65 COMP_OUT<14> (out), 66 COMP_OUT<15> (out), 67 COMP_OUT<16> (out), 68 PULSE_IN (in), 69 SPIDINPCO (in), 70 SPILDPCO (in), 71 COM_TRIG (out), 72 CPULSE (out), 73 PCO_CLK (out), 74 CPULSE_EN (out), 75 DEL_LSB (out), 76 BLK_LSB (out), 77 SPICLKOUTPCO (out), 78 COMP_IN<15> (in), 79 COMP_IN<16> (in), 80 BIAS (power), 81 VDDSP (power), 82 GND (power), 83 COMP_IN<9> (in), 84 COMP_IN<11> (in), 85 COMP_IN<10> (in), 86 COMP_IN<12> (in), 87 COMP_IN<13> (in), 88 COMP_OUT<11> (out), 89 COMP_OUT<10> (out), 90 SPICLKOUT2 (out), 91 COMP_OUT<9> (out), 92 COMP_OUT<12> (out), 93 COMP_OUT<13> (out), 94 SPIDOUT2 (out)

## PCO_Oct2016
designator PCO  (value not drawn)
footprint PCO_Oct2016-Bond_v1
pins: 1 SPIDIN2 (in), 2 SPILD2 (in), 3 SPICLKIN2 (in), 4 VDDSPI (power), 5 COMP_TEST (in), 6 CLR_L (in), 7 CLK2 (in), 8 SP_EN2 (in), 9 CLK_902 (in), 10 VDDSP (power), 11 VQN (in), 12 VQP (in), 13 GND (power), 14 VIN (in), 15 VIP (in), 16 BIAS (power), 17 EN_SH (in), 18 CLK_90 (in), 19 SP_EN1 (in), 20 CLK (in), 21 Q_SGN_OUT2 (out), 22 Q_SGN_OUT1 (out), 23 SPICLKIN (in), 24 SPILD (in), 25 SPIDIN (in), 26 SPIDOUT (out), 27 COMP_OUT<5> (out), 28 COMP_OUT<4> (out), 29 COMP_OUT<1> (out), 30 SPICLKOUT (out), 31 COMP_OUT<2> (out), 32 COMP_OUT<3> (out), 33 COMP_IN<5> (in), 34 COMP_IN<4> (in), 35 COMP_IN<2> (in), 36 COMP_IN<3> (in), 37 COMP_IN<1> (in), 38 GND (power), 39 VDDSP (power), 40 BIAS (power), 41 COMP_IN<8> (in), 42 COMP_IN<7> (in), 43 COMP_IN<6> (in), 44 COMP_IN<14> (in), 45 SP_OUT (out), 46 SPIDOUTPCO (out), 47 PCO_LSB (out), 48 CLK_LSB (out), 49 PCO_CLK_DEL (out), 50 CPULSE_DEL (out), 51 PULSEGENOUT (out), 52 PULSE_OUT_N (out), 53 SPICLKINPCO (in), 54 TX_TRIG_N (in), 55 COMP_OUT<8> (out), 56 COMP_OUT<7> (out), 57 COMP_OUT<6> (out), 58 CLK_PD (in), 59 SEQ_CLK (in), 60 VDDSPI (power), 61 GND (power), 62 VDDPCO (power), 63 REF_CLK (in), 64 PCORESET_N (in), 65 COMP_OUT<14> (out), 66 COMP_OUT<15> (out), 67 COMP_OUT<16> (out), 68 PULSE_IN (in), 69 SPIDINPCO (in), 70 SPILDPCO (in), 71 COM_TRIG (out), 72 CPULSE (out), 73 PCO_CLK (out), 74 CPULSE_EN (out), 75 DEL_LSB (out), 76 BLK_LSB (out), 77 SPICLKOUTPCO (out), 78 COMP_IN<15> (in), 79 COMP_IN<16> (in), 80 BIAS (power), 81 VDDSP (power), 82 GND (power), 83 COMP_IN<9> (in), 84 COMP_IN<11> (in), 85 COMP_IN<10> (in), 86 COMP_IN<12> (in), 87 COMP_IN<13> (in), 88 COMP_OUT<11> (out), 89 COMP_OUT<10> (out), 90 SPI_ENIN (in), 91 COMP_OUT<9> (out), 92 COMP_OUT<12> (out), 93 COMP_OUT<13> (out), 94 SPIDOUT2 (out)

## Piezo Speaker
designator S?, comment Piezo  (value not drawn)
Piezo or Equivalent Speaker
footprint Piezo Speaker (5mm pitch, 12.2 mm diameter)
footprint Piezo Speaker2 (6.5mm pitch, 12 mm diameter)
pins: 1, 2

## PTC Fuse
designator F?, comment Ihold: 500 mA  (hidden comment: PTC Resettable Fuse)
footprint 3216N (1206 (3216 Metric))
pins: 1, 2

## Pushbutton Off-Mom
designator S?, comment Reset
Pushbotton Off-Mom
footprint Pushbutton
pins: 1 (power), 2 (power), 3 (power), 4 (power)

## R-78
designator U?, comment R-78*
Recom Power INNOLINE R-78 Series Switching Regulator
footprint R-78B (Recom Power 3-SIP R-78B Sries Switching Regulators)
footprint R-78E (Recom Power 3-SIP R-78E Sries Switching Regulators)
pins: 1 Vin, 2 GND, 3 Vout

## Res
designator R?  value 1k  (hidden comment: Res)
Generic Resistor, Through Hole or Surface Mount; Tolerance: 1%
footprint AXIAL-0.3 (Axial Device, Thru-Hole; 2 Leads; 0.3 in Pin Spacing)
simulation model RESISTOR (Resistor)
signal-integrity model Res
footprint 1608N (0603 (1608 Metric))
footprint 1005N (0402 (1005 Metric) from PCBfootprints_290709)
footprint 2012N (0805 (2012 Metric) from PCBfootprints_290709)
footprint 3216N (1206 (3216 Metric) from PCBfootprints_290709)
footprint 1005L (0402 (1005 Metric) from PCBfootprints_290709)
footprint 0603N (0201 (0603 Metric). Chip Capacitor, 2-Leads, Body 0.60x0.30mm, IPC Medium Density)
footprint 0603L (0201 (0603 Metric). Chip Capacitor, 2-Leads, Body 0.60x0.30mm, IPC High Density)
pins: 1, 2

## RPDN_May2014-bond_v1
designator RPDN
RPDN test chip from May 2014 tapeout
footprint RPDN_May2014-bond_v1
pins: 1 GND (power), 2 DOUT (out), 3 VDD2DRV (power), 4 CLKSPIIN (in), 5 VDD1DRV (power), 6 VDD2DRV (power), 7 VDD1DRV (power), 8 DIN (in), 9 VDD2DRV (power), 10 CLKSPIOUT (out), 11 VDDCONV (power), 12 GND (power), 13 VDDCONV (power), 14 VDDCONV (power), 15 GND (power), 16 VDDCONV (power), 17 GND (power), 18 LOAD1 (out), 19 LOAD0 (out), 20 LOAD1 (out), 21 LOAD0 (out), 22 GNDLOAD1 (out), 23 GNDLOAD0 (out), 24 GNDLOAD1 (out), 25 GNDLOAD0 (out), 26 LAODBIAS0 (in), 27 SPICLK (in), 28 SPIDIN (in), 29 SPILOAD (in), 30 VREFPAD3 (in), 31 VREFPAD2 (in), 32 VREFPAD1 (in), 33 VREFPAD0 (in), 34 VDDCOMP (power), 35 VDDCP (power), 36 VCOCTRL0 (in), 37 GND (power), 38 VDDVCO (power), 39 VCOCTRL1 (in), 40 VDDVCO (power), 41 OSWID (in), 42 COMPBIAS (in), 43 VDDLOAD (power), 44 LAODBIAS1 (in), 45 GNDLOAD2+3 (power), 46 GNDLOAD2+3 (power), 47 GNDLOAD2+3 (power), 48 LOAD2 (out), 49 LOAD3 (out), 50 CPOPAMPBIAS (in), 51 CPBIAS (in), 52 VCOCTRL2+3 (in), 53 VDDSPI (power), 54 GND (power), 55 VDDCONV (power), 56 GND (power), 57 GND (power), 58 VDDCONV (power), 59 GND (power), 60 VDDCONV (power)

## RPDN_May2014-bond_v2
designator RPDN
RPDN test chip from May 2014 tapeout
footprint RPDN_May2014-bond_v2
pins: 1 GND (power), 2 DOUT (out), 3 VDD2DRV (power), 4 CLKSPIIN (in), 5 VDD1DRV (power), 6 VDD2DRV (power), 7 VDD1DRV (power), 8 DIN (in), 9 VDD2DRV (power), 10 CLKSPIOUT (out), 11 VDDCONV (power), 12 GND (power), 13 VDDCONV (power), 14 VDDCONV (power), 15 GND (power), 16 VDDCONV (power), 17 GND (power), 18 LOAD1 (out), 19 LOAD0 (out), 20 LOAD1 (out), 21 LOAD0 (out), 22 GNDLOAD1 (out), 23 GNDLOAD0 (out), 24 GNDLOAD1 (out), 25 GNDLOAD0 (out), 26 LAODBIAS0 (in), 27 SPICLK (in), 28 SPIDIN (in), 29 SPILOAD (in), 30 VREFPAD3 (in), 31 VREFPAD2 (in), 32 VREFPAD1 (in), 33 VREFPAD0 (in), 34 VDDCOMP (power), 35 VDDCP (power), 36 VCOCTRL0 (in), 37 GND (power), 38 VDDVCO (power), 39 VCOCTRL1 (in), 40 VDDVCO (power), 41 OSWID (in), 42 COMPBIAS (in), 43 VDDLOAD (power), 44 LAODBIAS1 (in), 45 GNDLOAD2+3 (power), 46 GNDLOAD2+3 (power), 47 GNDLOAD2+3 (power), 48 LOAD2 (out), 49 LOAD3 (out), 50 CPOPAMPBIAS (in), 51 CPBIAS (in), 52 VCOCTRL2+3 (in), 53 VDDSPI (power), 54 GND (power), 55 VDDCONV (power), 56 GND (power), 57 GND (power), 58 VDDCONV (power), 59 GND (power), 60 VDDCONV (power)

## RPDN_May2014-package_v1
designator U?
RPDN test chip from May 2014 tapeout
footprint RPDN_May2014-package_v1
pins: 1 GND (power), 2 GND (power), 3 GND (power), 4 GND (power), 5 DOUT (out), 6 VDD2DRV (power), 7 CLKSPIIN (in), 8 VDD1DRV (power), 9 VDD2DRV (power), 10 VDD1DRV (power), 11 DIN (in), 12 VDD2DRV (power), 13 GND (power), 14 GND (power), 15 GND (power), 16 CLKSPIOUT (out), 17 VDDCONV (power), 18 VDDCONV (power), 19 VDDCONV (power), 20 VDDCONV (power), 21 LOAD1 (out), 22 LOAD0 (out), 23 LOAD1 (out), 24 LOAD0 (out), 25 GNDLOAD1 (out), 26 GNDLOAD0 (out), 27 GNDLOAD1 (out), 28 GNDLOAD0 (out), 29 LAODBIAS0 (in), 30 SPICLK (in), 31 SPIDIN (in), 32 SPILOAD (in), 33 VREFPAD3 (in), 34 VREFPAD2 (in), 35 GND (power), 36 GND (power), 37 VREFPAD1 (in), 38 VREFPAD0 (in), 39 VDDCOMP (power), 40 VDDCP (power), 41 VCOCTRL0 (in), 42 GND (power), 43 VDDVCO (power), 44 VCOCTRL1 (in), 45 VDDVCO (power), 46 GND (power), 47 GND (power), 48 GND (power), 49 OSWID (in), 50 COMPBIAS (in), 51 VDDLOAD (power), 52 LAODBIAS1 (in), 53 GNDLOAD2+3 (power), 54 GNDLOAD2+3 (power), 55 GNDLOAD2+3 (power), 56 LOAD2 (out), 57 LOAD3 (out), 58 CPOPAMPBIAS (in), 59 CPBIAS (in), 60 VCOCTRL2+3 (in), 61 VDDSPI (power), 62 VDDCONV (power), 63 VDDCONV (power), 64 VDDCONV (power)

## RPot
designator R?, comment Part?  value 1k
Potentiometer. Supported series: 23AR, T93YB, ST5ETW
footprint 23ARXXKLFTR (TT Electronics Model 23 Potentiometer)
footprint T93YB (Vishay Sfernice 3/8" Square Multi-Turn Cermet Trimmer)
footprint ST5ETW (Nidec Copal Electronics ST-5 W Series Trimmers)
pins: 1 BOT, 2 TAP, 3 TOP

## SiT8021
designator Y?, comment SIT8021AI-J4-18S-19.200000
1 to 26 MHz Ultra-Small uPower Oscillator 100 ppm. / Compatible with the entire family of oscillators
footprint SiT8021 (Altium Generated BGA (custom modified))
pins: 1 ST (in), 2 OUT (out), 3 VDD (power), 4 GND (power)

## SMA-edge
designator J?, comment SMA  (value not drawn)
SMA Edge Connector
footprint SMA-edge
pins: 1 X, 2 Y

## SMA-vertical
designator J?, comment SMA  (value not drawn)
SMA Vertical Connector
footprint SMA-vertical
pins: 1 X, 2 Y, 2 Y, 2 Y, 2 Y

## SN74AUC1G126
designator U?, comment SN74AUC1G126*
TI 1-bit Buffer
footprint SN74AUC1GxxxDBVR (SOT23, 5-Leads, Body 2.90x2.80mm, Pitch 0.95mm, IPC Medium Density)
pins: 1 OE (in), 2 A (in), 3 GND (power), 4 Y (out), 5 VCC (power)

## SN74AUC1G240
designator U?, comment SN74AUC1G240*
TI 1-bit Inverter
footprint SN74AUC1GxxxDBVR (SOT23, 5-Leads, Body 2.90x2.80mm, Pitch 0.95mm, IPC Medium Density)
pins: 1 OE (in), 2 A (in), 3 GND (power), 4 Y (out), 5 VCC (power)

## ST1L04
designator U?, comment ST1L04*
STMicroelectronics 1 A LDO
footprint ST1L04PT (Altium Footprint Wizzard Generated)
pins: 1 Vi (power), 2 N.C. (power), 3 GND (power), 4 ADJ (power), 5 Vo (power)

## SW-SPDT
designator S?
Single Pole Double Throw Switch
footprint CS12ANW03 (NKK Switches, SPDT Switch)
pins: 1, 2, 3

## SW-SPST
designator S?
Single Pole Single Throw Switch
pins: 1 COMMON, 2 NO

## TCM1-63AX+
designator T?
RF Transformer / 50Ω 10 to 6000 MHz
footprint TCM1-63AX+
pins: 1 N/C, 2 GND (power), 3 PRIM1, 4 SEC2, 5 N/C, 6 SEC1

## Test Point
designator TP?
Test point
footprint TP100mil (0.9 mm / 1.5 mm Round Hole, 100 mil Silk Screen Pitch)
footprint TP50mil (0.7 mm / 1.0 mm Round Hole, 50 mil Silk Screen Pitch)
footprint TP75mil (0.9 mm / 1.5 mm Round Hole, 75 mil Silk Screen Pitch)
pins: 1 signal (power)